# Altium footprint library 0451P750MRL.PcbLib: 3 footprints
Each footprint in its own frame and in the unit in brackets; x right, y up, seen from the top. Pads: shape width x height; smd on the part's side, far side on the other; paste and mask are expansions set on the pad; w line width, h text height; cw(c..) or ccw(c..) is an arc to the next point about the centre after c.
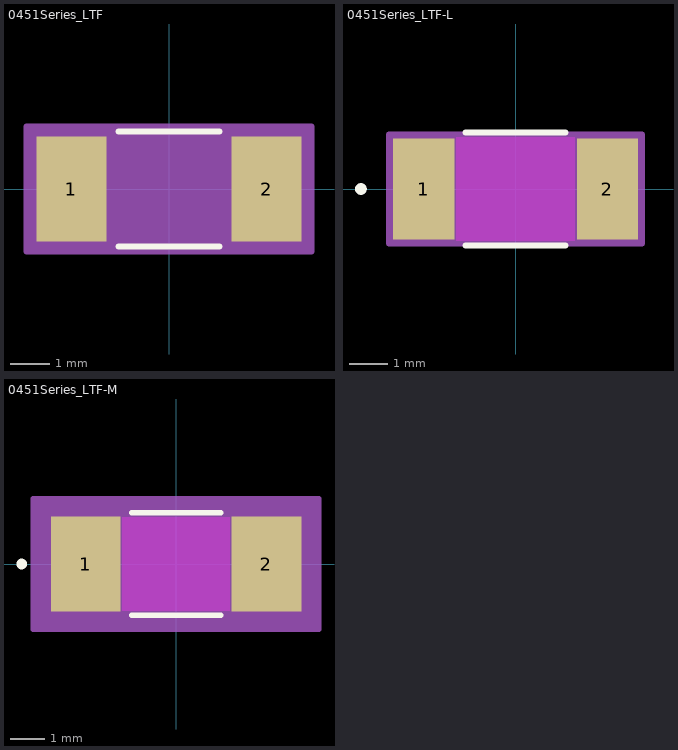
[diagram p0: the footprints below, top view; thin cyan lines are the x and y axes]

## 0451Series_LTF [mil]
pads (2):
  rect 71x106 smd paste+0 mask+0: 1(-98.5,0) 2(98.5,0)
Top Overlay:
  lines w6: -50.89,-58 50.89,-58 ; -50.89,58 50.89,58
Mechanical 13:
  lines w1: -120,-53 -120,53 ; -120,-53 120,-53 ; -120,-53 -63,-53 -63,53 -120,53 ; -120,-53 -120,53 ; -120,53 120,53 ; 120,-53 120,53 ; 120,-53 120,53 ; 120,-53 63,-53 63,53 120,53
Mechanical 15:
  region: 144,-63 -144,-63 -144,63 144,63
  lines w6: -144,-63 144,-63 144,63 -144,63 -144,-63
3D body "0451Series_LTF.step": height 105.98, standoff 0, extent -120,-52.99 120,52.99

## 0451Series_LTF-L [mil]
pads (2):
  rect 63x104 smd paste+0 mask+0: 1(-94.5,0) 2(94.5,0)
Top Layer keep-out:
  region: -61,-51 -61,51 61,51 61,-51
Top Overlay:
  circle w6: c-159,0 r3
  lines w6: -51.35,-58 51.35,-58 ; -51.35,58 51.35,58
Keep-Out Layer:
  region: -61,-53 -61,53 61,53 61,-53
Mechanical 13:
  circle w0: c-110,0 r3
  lines w1: -120,-53 -120,53 ; -120,-53 -63,-53 -63,53 -120,53 ; -120,-53 120,-53 ; -120,-53 -120,53 ; -120,53 120,53 ; 120,-53 63,-53 63,53 120,53 ; 120,-53 120,53 ; 120,-53 120,53
Mechanical 15:
  region: 130,-56 -130,-56 -130,56 130,56
  lines w6: -130,-56 -130,56 130,56 130,-56 -130,-56
3D body "0451Series_LTF.step": height 105.98, standoff 0, extent -120,-52.99 120,52.99

## 0451Series_LTF-M [mil]
pads (2):
  rect 79x108 smd paste+0 mask+0: 1(-102.5,0) 2(102.5,0)
Top Layer keep-out:
  region: -61,-51 -61,51 61,51 61,-51
Top Overlay:
  circle w6: c-175,0 r3
  lines w6: -50.53,-58 50.53,-58 ; -50.53,58 50.53,58
Keep-Out Layer:
  region: -61,-53 -61,53 61,53 61,-53
Mechanical 13:
  circle w0: c-110,0 r3
  lines w1: -120,-53 -120,53 ; -120,-53 -63,-53 -63,53 -120,53 ; -120,-53 120,-53 ; -120,-53 -120,53 ; -120,53 120,53 ; 120,-53 63,-53 63,53 120,53 ; 120,-53 120,53 ; 120,-53 120,53
Mechanical 15:
  region: 162,-74 -162,-74 -162,74 162,74
  lines w6: -162,-74 -162,74 162,74 162,-74 -162,-74
3D body "0451Series_LTF.step": height 105.98, standoff 0, extent -120,-52.99 120,52.99